# Altium schematic symbol library 691 215 700 0xx.SchLib: 2 symbols
Pins are listed as number, name and electrical type; pins without a type are passive.

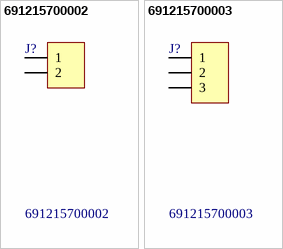
[diagram p0: symbols 691215700002 to 691215700003]

## 691215700002
designator J?
WR-TBL Vertical Entry Modular with Rising Cage Clamp,Serie 2157 - 5.00 mm; Manufacturer: Würth Elektronik eiSos GmbH; ComponentLink1 Description: Manufacturer; ComponentLink2 Description: Datasheet; NoPins: 2; Created Date: 26 Novenber 2013; partNo: 691215700002; ComponentLink1URL: http://www.we-online.com; ComponentLink2URL: http://katalog.we-online.de/em/datasheet/6912157000xx.pdf; Created by: Karrer Zheng
footprint 691215700002
pins: 1, 2

## 691215700003
designator J?
WR-TBL Vertical Entry Modular with Rising Cage Clamp,Serie 2157 - 5.00 mm; Manufacturer: Würth Elektronik eiSos GmbH; ComponentLink1 Description: Manufacturer; ComponentLink2 Description: Datasheet; NoPins: 3; Created Date: 26 Novenber 2013; partNo: 691215700003; ComponentLink1URL: http://www.we-online.com; ComponentLink2URL: http://katalog.we-online.de/em/datasheet/6912157000xx.pdf; Created by: Karrer Zheng
footprint 691215700003
pins: 1, 2, 3